# EAGLE library part W25X10 (library untitled)
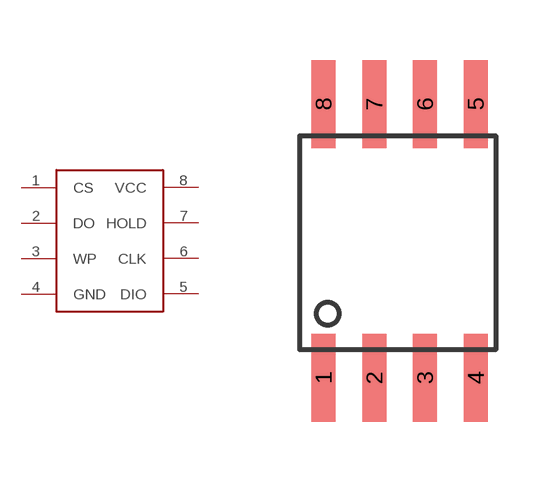
[diagram p62: symbol with the pads of SOIC8W; footprint SOIC8W]

Designator prefix -

## W25X10  [SOIC8W]
1  CS
2  DO
3  WP
4  GND  pwr
5  DIO
6  CLK
7  HOLD
8  VCC  pwr

## Footprint SOIC8W (pad centres in mm)
smd 0.6 x 2.2: 1 -1.905,-3.87; 2 -0.635,-3.87; 3 0.635,-3.87; 4 1.905,-3.87; 5 1.905,2.981; 6 0.635,2.981; 7 -0.635,2.981; 8 -1.905,2.981